# EAGLE library part SPILEDDRIVER (library spileddriver)
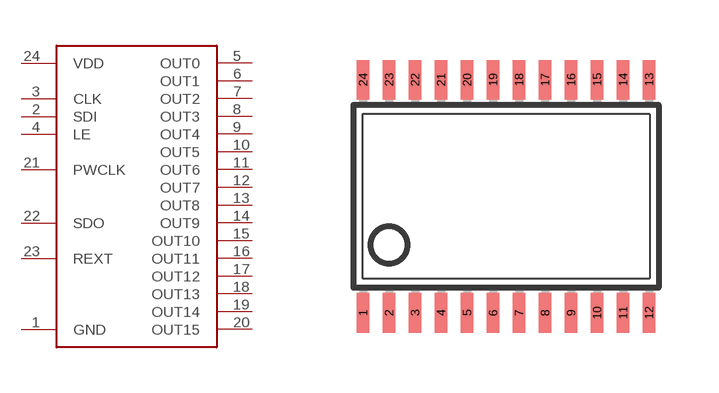
[diagram p0: symbol with the pads of TSSOP24; footprint TSSOP24]

Designator prefix -

## SPILEDDRIVER  [TSSOP24]
1  GND
2  SDI
3  CLK
4  LE
5  OUT0
6  OUT1
7  OUT2
8  OUT3
9  OUT4
10  OUT5
11  OUT6
12  OUT7
13  OUT8
14  OUT9
15  OUT10
16  OUT11
17  OUT12
18  OUT13
19  OUT14
20  OUT15
21  PWCLK
22  SDO
23  REXT
24  VDD

## Footprint TSSOP24 (pad centres in mm)
Thin Shrink Small Outline Plastic 24 MAX3223-MAX3243.pdf
smd 0.305 x 0.991: 1 -3.575,-2.918; 2 -2.925,-2.918; 3 -2.275,-2.918; 4 -1.625,-2.918; 5 -0.975,-2.918; 6 -0.325,-2.918; 7 0.325,-2.918; 8 0.975,-2.918; 9 1.625,-2.918; 10 2.275,-2.918; 11 2.925,-2.918; 12 3.575,-2.918; 13 3.575,2.918; 14 2.925,2.918; 15 2.275,2.918; 16 1.625,2.918; 17 0.975,2.918; 18 0.325,2.918; 19 -0.325,2.918; 20 -0.975,2.918; 21 -1.625,2.918; 22 -2.275,2.918; 23 -2.925,2.918; 24 -3.575,2.918